# EAGLE library part 3-1734577-4 (library 3-1734577-4)
RJ45 Connector, Single Port, 1 x 1, Standard Connector Contact Density, Jack, Shielded, Cat 3, Standard - Latch Down, 8 Position, Standard Profile Source: Datasheet <https://www.te.com/commerce/DocumentDelivery/DDEController?Action=showdoc&DocId=Customer Drawing1734577D1pdfEnglishENG_CD_1734577_D1.pdf3-1734577-4>
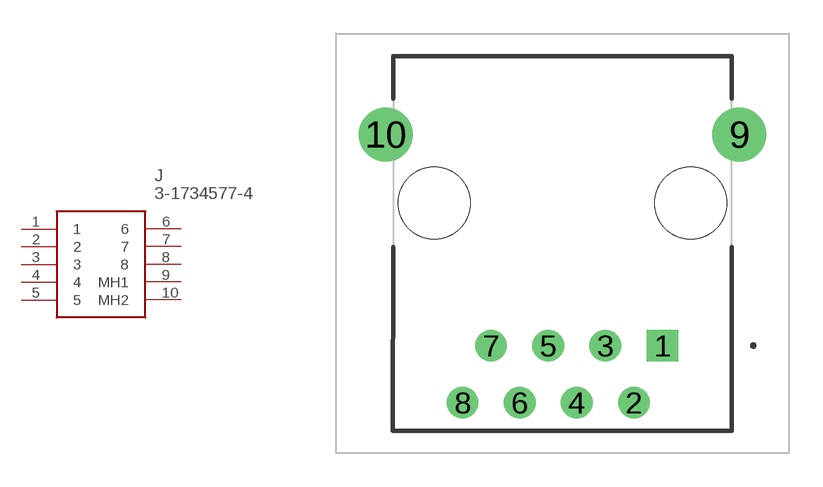
[diagram p0: symbol with the pads of 317345774; footprint 317345774]

Designator prefix J

## 3-1734577-4 (Description: RJ45 Connector, Single Port, 1 x 1, Standard Connector Contact Density, Jack, Shielded, Cat 3, Standard - Latch Down, 8 Position, Standard Profile; Height: 16.8mm; Manufacturer_Name: TE Connectivity; Manufacturer_Part_Number: 3-1734577-4; Mouser_Part_Number: 571-3-1734577-4; Mouser_Price-Stock: https://www.mouser.co.uk/ProductDetail/TE-Connectivity-AMP/3-1734577-4?qs=Z4JOKa0a9TUSCOA052xCCw%3D%3D)  [317345774]
1  1
2  2
3  3
4  4
5  5
6  6
7  7
8  8
9  MH1
10  MH2

## Footprint 317345774 (pad centres in mm)
3-1734577-4-1
drill 0.9 pad 1.4 square: 1 0,0
drill 0.9 pad 1.4: 2 -1.27,-2.54; 3 -2.54,0; 4 -3.81,-2.54; 5 -5.08,0; 6 -6.35,-2.54; 7 -7.62,0; 8 -8.89,-2.54
drill 1.6 pad 2.4: 9 3.43,9.4; 10 -12.32,9.4
hole 3.2 at 1.27,6.35
hole 3.2 at -10.16,6.35